# Altium footprint library VoltageRegulator.PcbLib: 1 footprints
Each footprint in its own frame and in the unit in brackets; x right, y up, seen from the top. Pads: shape width x height; smd on the part's side, far side on the other; paste and mask are expansions set on the pad; w line width, h text height; cw(c..) or ccw(c..) is an arc to the next point about the centre after c.
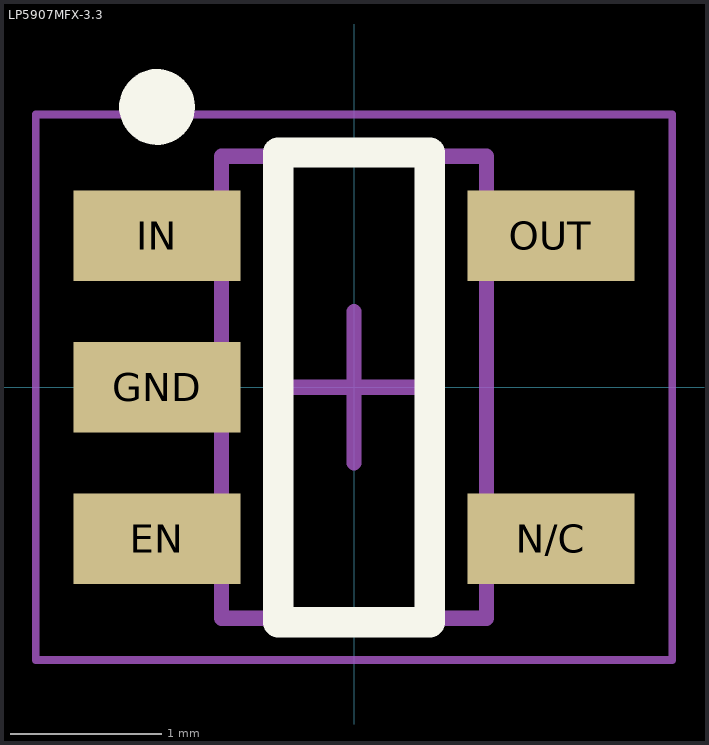
[diagram p0: the footprint, top view; thin cyan lines are the x and y axes]

## LP5907MFX-3.3 [mm] "SOT23, 5-Leads, Body 2,90x2,80mm, Pitch 1,00mm, IPC Medium Density"
height 1.45
pads (5):
  rect 1.1x0.6 smd: EN(-1.3,-1) GND(-1.3,0) IN(-1.3,1) N/C(1.3,-1) OUT(1.3,1)
Top Overlay:
  circle w0.25: c-1.3,1.85 r0.125
  lines w0.2: -0.5,-1.55 -0.5,1.55 0.5,1.55 0.5,-1.55 -0.5,-1.55
Mechanical 13:
  lines w0.1: -0.875,-1.525 0.875,-1.525 0.875,1.525 -0.875,1.525 -0.875,-1.525
Mechanical 15:
  lines w0.05: -2.1,-1.8 2.1,-1.8 2.1,1.8 -2.1,1.8 -2.1,-1.8
  lines w0.1: -0.5,0 0.5,0 ; 0,-0.5 0,0.5
3D body "LP5907MFX-3.3.step": height 1.45, standoff 0, extent -1.5,-1.525 1.5,1.525